# Altium schematic symbol library Display.SchLib: 8 symbols
Pins are listed as number, name and electrical type; pins without a type are passive.

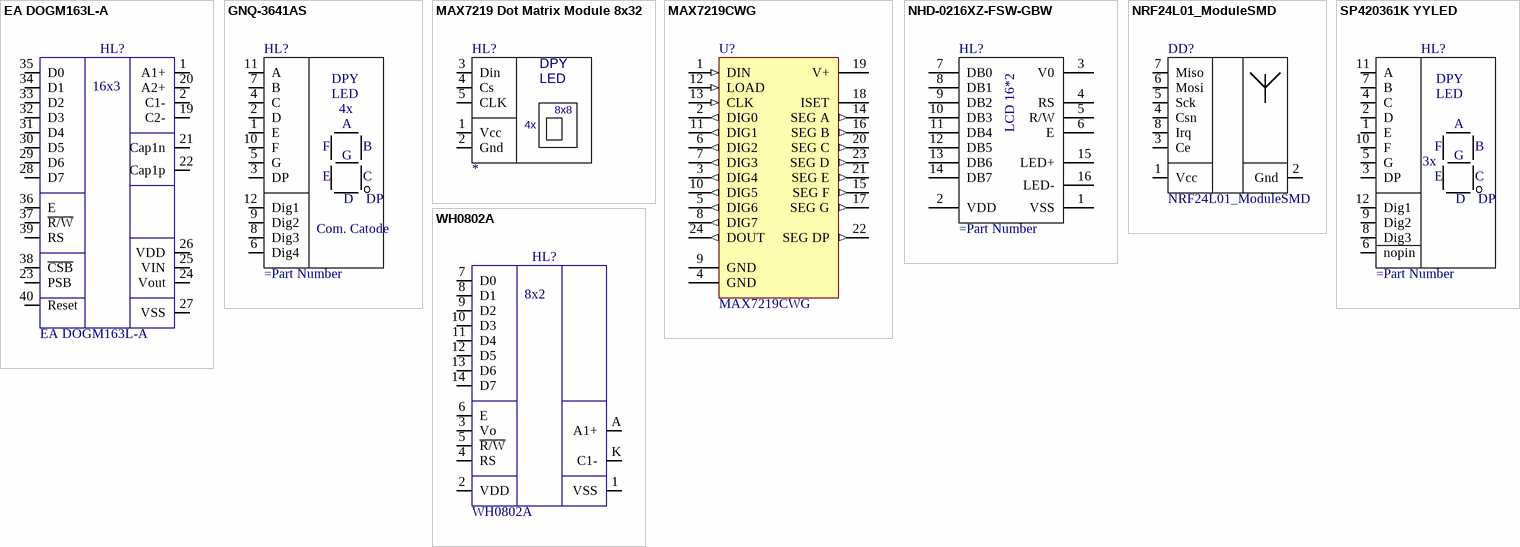
[diagram p0: symbols EA DOGM163L-A to WH0802A]

## EA DOGM163L-A
designator HL?
LCD Character Display Modules
pins: 1 A1+ "LED backlight", 2 C1- "LED backlight", 19 C2- (power) "LED backlight", 20 A2+ "LED backlight", 21 Cap1n "Voltage Booster - (0,1..1uF)", 22 Cap1p "Voltage Booster + (0,1..1uF)", 23 PSB "L= Serial Mode, H= Parallel M.", 24 Vout "Voltage Booster Output", 25 VIN "Voltage Booster Input", 26 VDD "Pow er Supply +3,3..5V", 27 VSS "Pow er Supply 0V (GND)", 28 D7 "Display Data (MSB)", 29 D6 "Display Data", 30 D5 "Display Data", 31 D4 "Display Data", 32 D3 "Display Data", 33 D2 "Display Data", 34 D1 "Display Data", 35 D0 "Display Data (LSB)", 36 E "Enable (falling edge)", 37 ~{R/W} "L= Write, H=Read", 38 ~{CSB} "Chip Select", 39 RS "L= Command, H= Data", 40 Reset
text: 16x3

## GNQ-3641AS
designator HL?
pins: 1 E, 2 D, 3 DP, 4 C, 5 G, 6 Dig4, 7 B, 8 Dig3, 9 Dig2, 10 F, 11 A, 12 Dig1
text: DPY; LED; 4x; Com. Catode

## MAX7219 Dot Matrix Module 8x32
designator HL?
pins: 1 Vcc, 2 Gnd, 3 Din, 4 Cs, 5 CLK
text: DPY; LED; 8x8; 4x

## MAX7219CWG
designator U?
Serially Interfaced, 8-Digit LED Display Driver; Published: 16-Jan-2001; LatestRevisionDate: 13-Apr-2006; LatestRevisionNote: IPC-7351 Footprint Added.; DatasheetVersion: Jul-1997; PackageReference: WSO24; Publisher: Altium Limited; PackageDescription: 24-Pin Small Outline Integrated Circuit 1.27 mm Pitch; ComponentLink1Description: Manufacturer Link; ComponentLink1URL: http://www.maxim-ic.com/; ComponentLink2Description: Datasheet; ComponentLink2URL: http://pdfserv.maxim-ic.com/en/ds/MAX7219-MAX7221.pdf
footprint WSO24_N (SOIC, 24-Leads, Body 15.4x7.5mm, Pitch 1.27mm, IPC Medium Density)
footprint WSO24_L (SOIC, 24-Leads, Body 15.4x7.5mm, Pitch 1.27mm, IPC High Density)
footprint WSO24_M (SOIC, 24-Leads, Body 15.4x7.5mm, Pitch 1.27mm, IPC Low Density)
3D model WSO24 (24-Pin Small Outline Integrated Circuit 1.27 mm Pitch)
pins: 1 DIN (in), 2 DIG0 (out), 3 DIG4 (out), 4 GND (power), 5 DIG6 (out), 6 DIG2 (out), 7 DIG3 (out), 8 DIG7 (out), 9 GND (power), 10 DIG5 (out), 11 DIG1 (out), 12 LOAD (in), 13 CLK (in), 14 SEG A (out), 15 SEG F (out), 16 SEG B (out), 17 SEG G (out), 18 ISET, 19 V+ (power), 20 SEG C (out), 21 SEG E (out), 22 SEG DP (out), 23 SEG D (out), 24 DOUT (out)

## NHD-0216XZ-FSW-GBW
designator HL?
pins: 1 VSS "Ground", 2 VDD "Supply Voltage for Logic (+5.0V)", 3 V0 "Supply Voltage for Contrast (approx. 0.5V)", 4 RS "Register Select signal. RS=0: Command, RS=1: Data", 5 R/W "Read/Write select signal, R/W=1: Read R/W: =0: Write", 6 E "Operation Enable signal. Falling edge triggered.", 7 DB0, 8 DB1, 9 DB2, 10 DB3, 11 DB4, 12 DB5, 13 DB6, 14 DB7, 15 LED+ "Backlight Anode (+5.0V via on-board resistor)", 16 LED- "Backlight Cathode"
text: LCD 16*2

## NRF24L01_ModuleSMD
designator DD?
Transceiver; Part Number: NRF24L01_ModuleSMD
footprint NRF24L01_ModuleSMD
pins: 1 Vcc, 2 Gnd, 3 Ce, 4 Csn, 5 Sck, 6 Mosi, 7 Miso, 8 Irq

## SP420361K YYLED
designator HL?
pins: 1 E, 2 D, 3 DP, 4 C, 5 G, 6 nopin, 7 B, 8 Dig3, 9 Dig2, 10 F, 11 A, 12 Dig1
text: DPY; LED; 3x

## WH0802A
designator HL?
LCD Character Display Modules
pins: 1 VSS "Pow er Supply 0V (GND)", 2 VDD "Supply Voltage for logic", 3 Vo "Operating voltage for LCD", 4 RS "L= Command, H= Data", 5 ~{R/W} "L= Write, H=Read", 6 E "Enable (falling edge)", 7 D0 "Display Data (LSB)", 8 D1 "Display Data", 9 D2 "Display Data", 10 D3 "Display Data", 11 D4 "Display Data", 12 D5 "Display Data", 13 D6 "Display Data", 14 D7 "Display Data (MSB)", A A1+ "LED backlight", K C1- "LED backlight"
text: 8x2